# Altium footprint library PCB - LEADED - DIOM8059X265N.PCBLIB: 1 footprints
Each footprint in its own frame and in the unit in brackets; x right, y up, seen from the top. Pads: shape width x height; smd on the part's side, far side on the other; paste and mask are expansions set on the pad; w line width, h text height; cw(c..) or ccw(c..) is an arc to the next point about the centre after c.
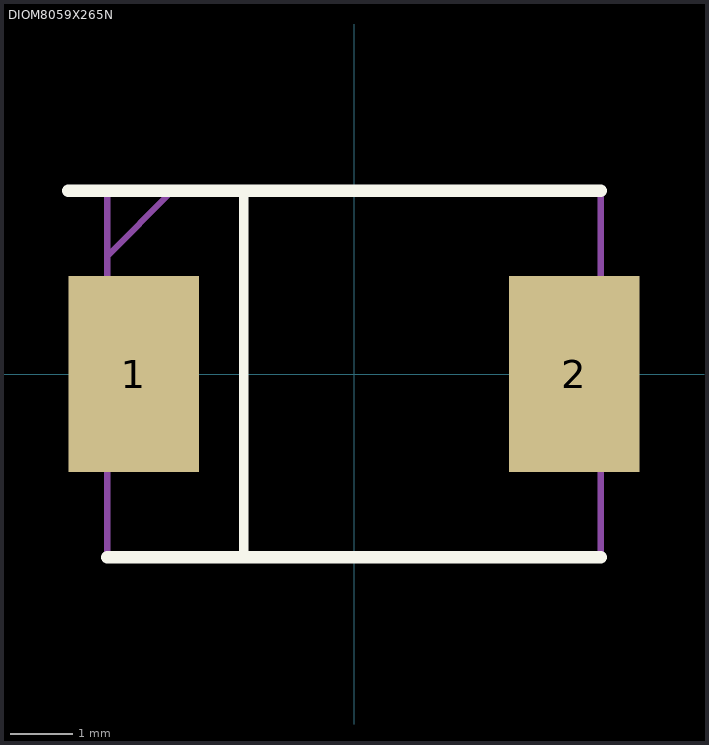
[diagram p0: the footprint, top view; thin cyan lines are the x and y axes]

## DIOM8059X265N [mm]
pads (2):
  rect 2.1x3.15 smd: 1(-3.55,0) 2(3.55,0)
Top Overlay:
  lines w0.153: -1.778,-2.921 -1.778,2.921
  lines w0.2: -4.6,2.95 3.975,2.95 ; -3.975,-2.95 3.975,-2.95
Top Value (Mech13):
  lines w0.1: -3.975,1.9 -2.925,2.95 ; -3.975,-2.95 3.975,-2.95 3.975,2.95 -3.975,2.95 -3.975,-2.95
3D body "STPS340S.stp": height 2.65, standoff 0, extent -3.975,-2.95 3.975,2.95